# EAGLE library part TFM-115-02-L-D-A (library C3-Connector)
SAMTEC 15x2 SMT 50mil HEADER 15 Pins, 2 Rows, SMT, 15µ" Gold on Post TFM Series Catalog Page (EN) <http://www.samtec.com/documents/webfiles/pdf/TFM.PDF>
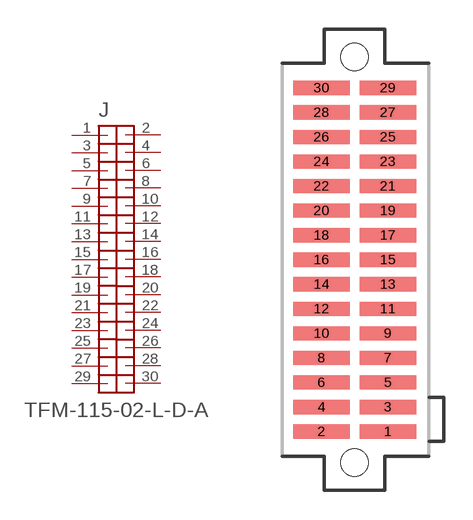
[diagram p11: symbol with the pads of SAMTEC_TFM-115-02-L-D-A; footprint SAMTEC_TFM-115-02-L-D-A]

Designator prefix J

## TFM-115-02-L-D-A  [SAMTEC_TFM-115-02-L-D-A]
1  1  pas
2  2  pas
3  3  pas
4  4  pas
5  5  pas
6  6  pas
7  7  pas
8  8  pas
9  9  pas
10  10  pas
11  11  pas
12  12  pas
13  13  pas
14  14  pas
15  15  pas
16  16  pas
17  17  pas
18  18  pas
19  19  pas
20  20  pas
21  21  pas
22  22  pas
23  23  pas
24  24  pas
25  25  pas
26  26  pas
27  27  pas
28  28  pas
29  29  pas
30  30  pas

## Footprint SAMTEC_TFM-115-02-L-D-A (pad centres in mm)
SAMTEC 15x2 SMT 50mil HEADER 15 Pins, 2 Rows, SMT, 15µ" Gold on Post TFM Series Catalog Page (EN) <http://www.samtec.com/documents/webfiles/pdf/TFM.PDF> TFM Footprint Drawing <http://www.samtec.com/documents/webfiles/cpdf/TFM-1XX-X2-XXX-D-XX-FOOTPRINT.pdf>
smd 2.921 x 0.737: 1 1.714,-8.89; 2 -1.714,-8.89; 3 1.714,-7.62; 4 -1.714,-7.62; 5 1.714,-6.35; 6 -1.714,-6.35; 7 1.714,-5.08; 8 -1.714,-5.08; 9 1.714,-3.81; 10 -1.714,-3.81; 11 1.714,-2.54; 12 -1.714,-2.54; 13 1.714,-1.27; 14 -1.714,-1.27; 15 1.714,0; 16 -1.714,0; 17 1.714,1.27; 18 -1.714,1.27; 19 1.714,2.54; 20 -1.714,2.54; 21 1.714,3.81; 22 -1.714,3.81; 23 1.714,5.08; 24 -1.714,5.08; 25 1.714,6.35; 26 -1.714,6.35; 27 1.714,7.62; 28 -1.714,7.62; 29 1.714,8.89; 30 -1.714,8.89
hole 1.42 at 0,10.48
hole 1.42 at 0,-10.48